# EAGLE library part HF44?S (library FansElectronics-Con-DB)
SUB-D
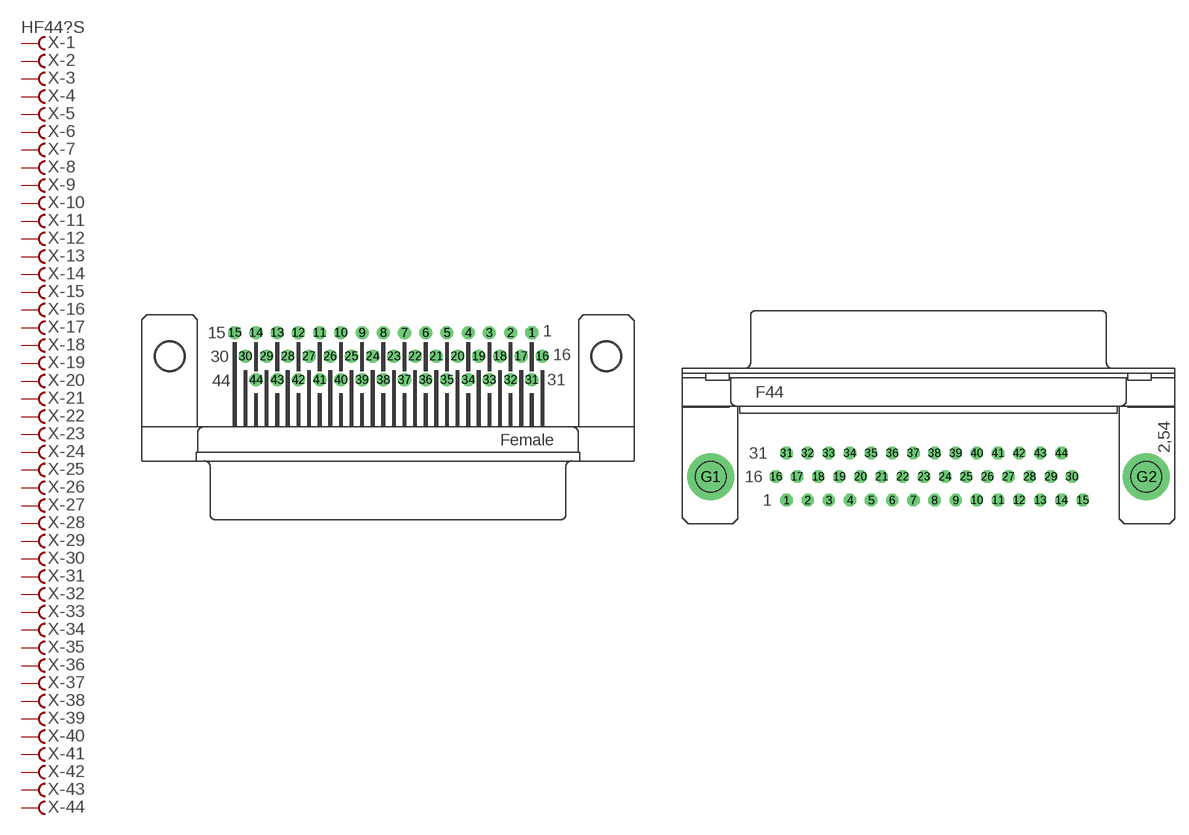
[diagram p53: symbol with the pads of HDF44H; footprints HDF44H, HDF44HN]

Designator prefix X; gates -1=FV -2=F -3=F -4=F -5=F -6=F -7=F -8=F -9=F -10=F -11=F -12=F -13=F -14=F -15=F -16=F -17=F -18=F -19=F -20=F -21=F -22=F -23=F -24=F -25=F -26=F -27=F -28=F -29=F -30=F -31=F -32=F -33=F -34=F -35=F -36=F -37=F -38=F -39=F -40=F -41=F -42=F -43=F -44=F

## HF44HS (OC_FARNELL: unknown; OC_NEWARK: unknown)  [HDF44H]
1  -1:F  pas
2  -2:F  pas
3  -3:F  pas
4  -4:F  pas
5  -5:F  pas
6  -6:F  pas
7  -7:F  pas
8  -8:F  pas
9  -9:F  pas
10  -10:F  pas
11  -11:F  pas
12  -12:F  pas
13  -13:F  pas
14  -14:F  pas
15  -15:F  pas
16  -16:F  pas
17  -17:F  pas
18  -18:F  pas
19  -19:F  pas
20  -20:F  pas
21  -21:F  pas
22  -22:F  pas
23  -23:F  pas
24  -24:F  pas
25  -25:F  pas
26  -26:F  pas
27  -27:F  pas
28  -28:F  pas
29  -29:F  pas
30  -30:F  pas
31  -31:F  pas
32  -32:F  pas
33  -33:F  pas
34  -34:F  pas
35  -35:F  pas
36  -36:F  pas
37  -37:F  pas
38  -38:F  pas
39  -39:F  pas
40  -40:F  pas
41  -41:F  pas
42  -42:F  pas
43  -43:F  pas
44  -44:F  pas

## HF44HNS (OC_FARNELL: unknown; OC_NEWARK: unknown)  [HDF44HN]
Pads as for HDF44H

## HF44VS (OC_FARNELL: unknown; OC_NEWARK: unknown)  [HDF44V]
Pads as for HDF44H

## Footprint HDF44H (pad centres in mm)
SUB-D
drill 0.9 octagon: 1 15.497,2.54
drill 0.9: 2 13.211,2.54; 3 10.925,2.54; 4 8.639,2.54; 5 6.353,2.54; 6 4.067,2.54; 7 1.781,2.54; 8 -0.505,2.54; 9 -2.791,2.54; 10 -5.077,2.54; 11 -7.363,2.54; 12 -9.649,2.54; 13 -11.935,2.54; 14 -14.221,2.54; 15 -16.507,2.54; 16 16.64,0; 17 14.354,0; 18 12.068,0; 19 9.782,0; 20 7.496,0; 21 5.21,0; 22 2.924,0; 23 0.638,0; 24 -1.648,0; 25 -3.934,0; 26 -6.22,0; 27 -8.506,0; 28 -10.792,0; 29 -13.078,0; 30 -15.364,0; 31 15.497,-2.54; 32 13.211,-2.54; 33 10.925,-2.54; 34 8.639,-2.54; 35 6.353,-2.54; 36 4.067,-2.54; 37 1.781,-2.54; 38 -0.505,-2.54; 39 -2.791,-2.54; 40 -5.077,-2.54; 41 -7.363,-2.54; 42 -9.649,-2.54; 43 -11.935,-2.54; 44 -14.221,-2.54
hole 3 at -23.52,0
hole 3 at 23.52,0

## Footprint HDF44HN (pad centres in mm)
SUB-D
drill 0.813 octagon: 1 -14.732,-3.81; 2 -12.446,-3.81; 3 -10.16,-3.81; 4 -7.874,-3.81; 5 -5.588,-3.81; 6 -3.302,-3.81; 7 -1.016,-3.81; 8 1.27,-3.81; 9 3.556,-3.81; 10 5.842,-3.81; 11 8.128,-3.81; 12 10.414,-3.81; 13 12.7,-3.81; 14 14.986,-3.81; 15 17.272,-3.81; 16 -15.875,-1.27; 17 -13.589,-1.27; 18 -11.303,-1.27; 19 -9.017,-1.27; 20 -6.731,-1.27; 21 -4.445,-1.27; 22 -2.159,-1.27; 23 0.127,-1.27; 24 2.413,-1.27; 25 4.699,-1.27; 26 6.985,-1.27; 27 9.271,-1.27; 28 11.557,-1.27; 29 13.843,-1.27; 30 16.129,-1.27; 31 -14.732,1.27; 32 -12.446,1.27; 33 -10.16,1.27; 34 -7.874,1.27; 35 -5.588,1.27; 36 -3.302,1.27; 37 -1.016,1.27; 38 1.27,1.27; 39 3.556,1.27; 40 5.842,1.27; 41 8.128,1.27; 42 10.414,1.27; 43 12.7,1.27; 44 14.986,1.27
drill 3.302 pad 5.08: G1 -22.936,-1.27; G2 24.166,-1.27

## Footprint HDF44V (pad centres in mm)
SUB-D
drill 0.9 octagon: 1 15.516,1.98
drill 0.9: 2 13.23,1.98; 3 10.944,1.98; 4 8.658,1.98; 5 6.372,1.98; 6 4.086,1.98; 7 1.8,1.98; 8 -0.486,1.98; 9 -2.772,1.98; 10 -5.058,1.98; 11 -7.344,1.98; 12 -9.63,1.98; 13 -11.916,1.98; 14 -14.202,1.98; 15 -16.488,1.98; 16 16.659,0; 17 14.373,0; 18 12.087,0; 19 9.801,0; 20 7.515,0; 21 5.229,0; 22 2.943,0; 23 0.657,0; 24 -1.629,0; 25 -3.915,0; 26 -6.201,0; 27 -8.487,0; 28 -10.773,0; 29 -13.059,0; 30 -15.345,0; 31 15.516,-1.98; 32 13.23,-1.98; 33 10.944,-1.98; 34 8.658,-1.98; 35 6.372,-1.98; 36 4.086,-1.98; 37 1.8,-1.98; 38 -0.486,-1.98; 39 -2.772,-1.98; 40 -5.058,-1.98; 41 -7.344,-1.98; 42 -9.63,-1.98; 43 -11.916,-1.98; 44 -14.202,-1.98
hole 3 at -23.52,0
hole 3 at 23.52,0